# EAGLE library part XC3S200-PQ208 (library xilinx)
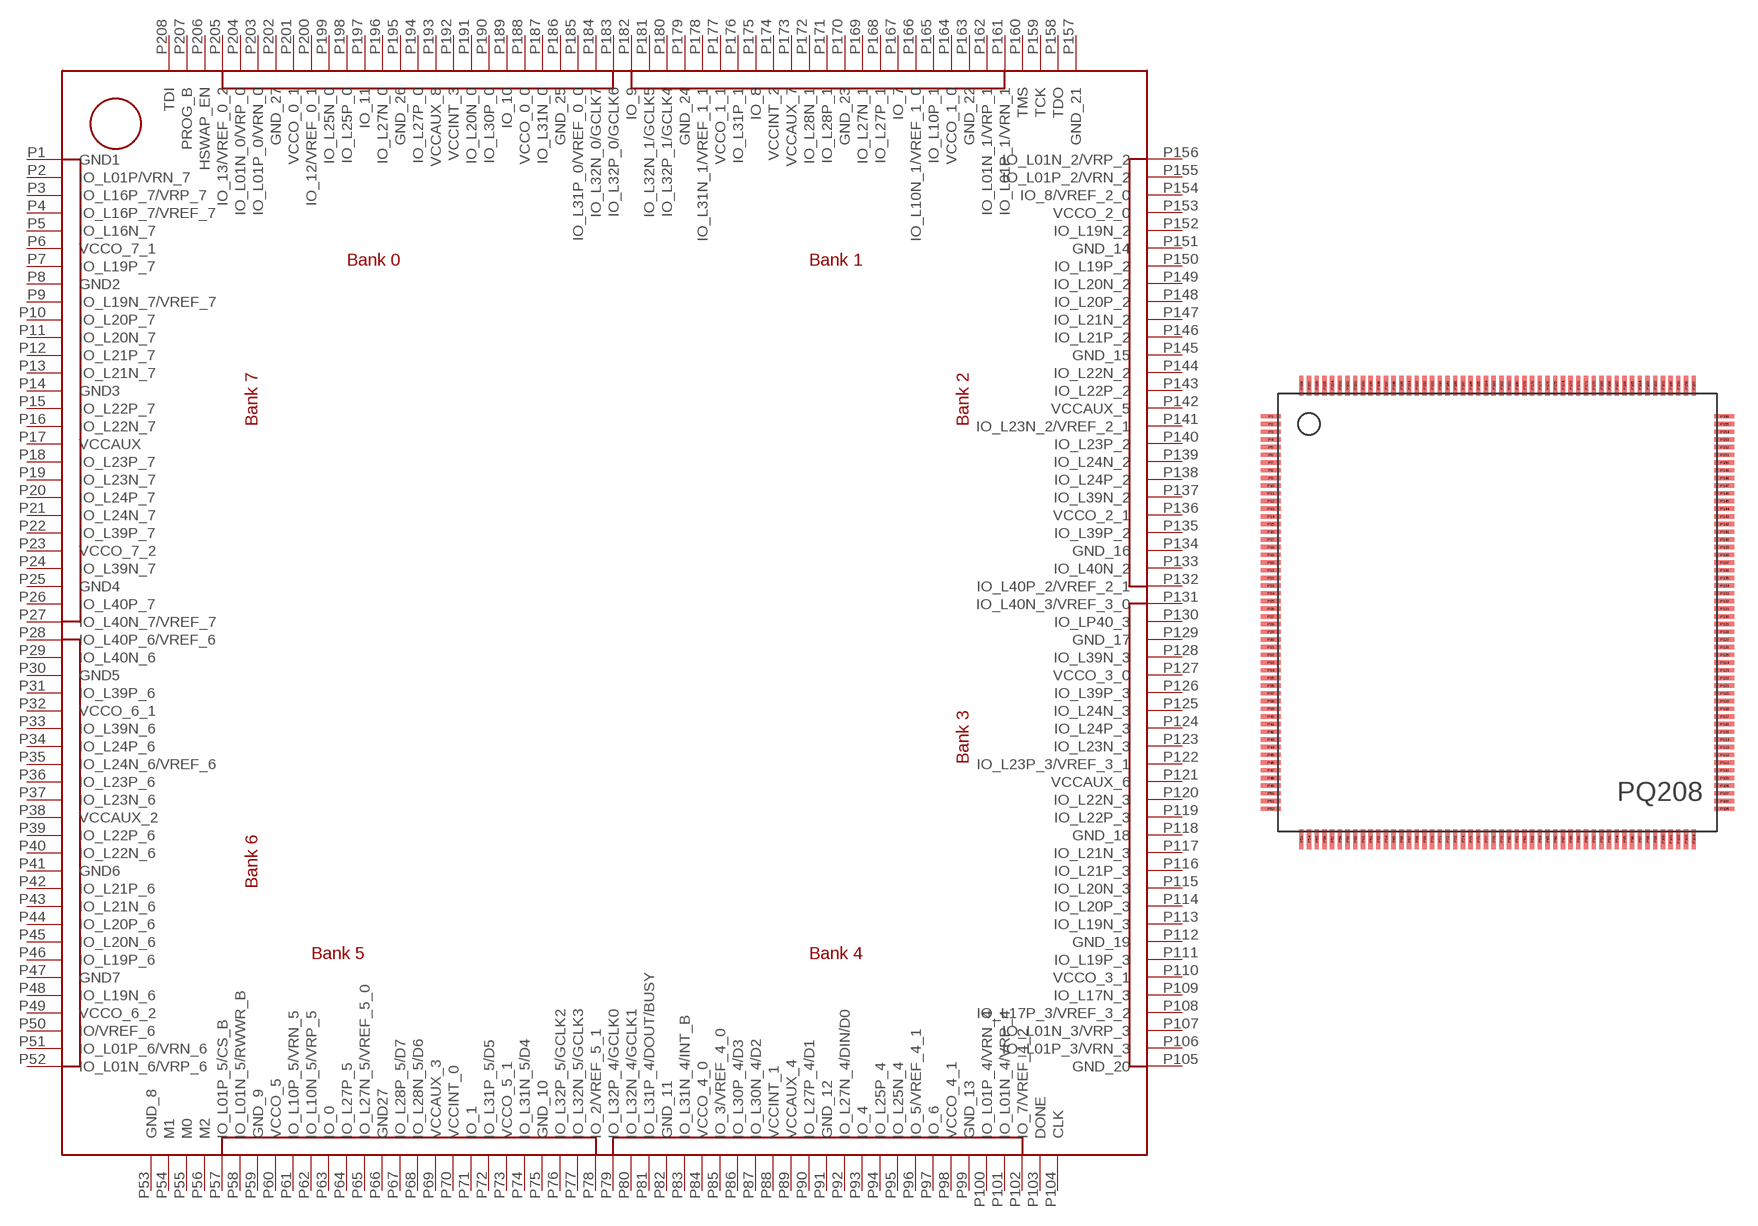
[diagram p0: symbol with the pads of PQ208; footprint PQ208]

Designator prefix -

## XC3S200-PQ208  [PQ208]
P1  GND1  pwr
P2  IO_L01P/VRN_7
P3  IO_L16P_7/VRP_7
P4  IO_L16P_7/VREF_7
P5  IO_L16N_7
P6  VCCO_7_1  pwr
P7  IO_L19P_7
P8  GND2  pwr
P9  IO_L19N_7/VREF_7
P10  IO_L20P_7
P11  IO_L20N_7
P12  IO_L21P_7
P13  IO_L21N_7
P14  GND3  pwr
P15  IO_L22P_7
P16  IO_L22N_7
P17  VCCAUX  pwr
P18  IO_L23P_7
P19  IO_L23N_7
P20  IO_L24P_7
P21  IO_L24N_7
P22  IO_L39P_7
P23  VCCO_7_2  pwr
P24  IO_L39N_7
P25  GND4  pwr
P26  IO_L40P_7
P27  IO_L40N_7/VREF_7
P28  IO_L40P_6/VREF_6
P29  IO_L40N_6
P30  GND5  pwr
P31  IO_L39P_6
P32  VCCO_6_1  pwr
P33  IO_L39N_6
P34  IO_L24P_6
P35  IO_L24N_6/VREF_6
P36  IO_L23P_6
P37  IO_L23N_6
P38  VCCAUX_2  pwr
P39  IO_L22P_6
P40  IO_L22N_6
P41  GND6  pwr
P42  IO_L21P_6
P43  IO_L21N_6
P44  IO_L20P_6
P45  IO_L20N_6
P46  IO_L19P_6
P47  GND7  pwr
P48  IO_L19N_6
P49  VCCO_6_2  pwr
P50  IO/VREF_6
P51  IO_L01P_6/VRN_6
P52  IO_L01N_6/VRP_6
P53  GND_8  pwr
P54  M1  in
P55  M0  in
P56  M2  in
P57  IO_L01P_5/CS_B
P58  IO_L01N_5/RWWR_B
P59  GND_9  pwr
P60  VCCO_5  pwr
P61  IO_L10P_5/VRN_5
P62  IO_L10N_5/VRP_5
P63  IO_0
P64  IO_L27P_5
P65  IO_L27N_5/VREF_5_0
P66  GND27  pwr
P67  IO_L28P_5/D7
P68  IO_L28N_5/D6
P69  VCCAUX_3  pwr
P70  VCCINT_0  pwr
P71  IO_1
P72  IO_L31P_5/D5
P73  VCCO_5_1  pwr
P74  IO_L31N_5/D4
P75  GND_10  pwr
P76  IO_L32P_5/GCLK2
P77  IO_L32N_5/GCLK3
P78  IO_2/VREF_5_1
P79  IO_L32P_4/GCLK0
P80  IO_L32N_4/GCLK1
P81  IO_L31P_4/DOUT/BUSY
P82  GND_11  pwr
P83  IO_L31N_4/INT_B
P84  VCCO_4_0  pwr
P85  IO_3/VREF_4_0
P86  IO_L30P_4/D3
P87  IO_L30N_4/D2
P88  VCCINT_1  pwr
P89  VCCAUX_4  pwr
P90  IO_L27P_4/D1
P91  GND_12  pwr
P92  IO_L27N_4/DIN/D0
P93  IO_4
P94  IO_L25P_4
P95  IO_L25N_4
P96  IO_5/VREF_4_1
P97  IO_6
P98  VCCO_4_1  pwr
P99  GND_13  pwr
P100  IO_L01P_4/VRN_4
P101  IO_L01N_4/VRP_4
P102  IO_7/VREF_4_2
P103  DONE
P104  CLK
P105  GND_20  pwr
P106  IO_L01P_3/VRN_3
P107  IO_L01N_3/VRP_3
P108  IO_L17P_3/VREF_3_2
P109  IO_L17N_3
P110  VCCO_3_1  pwr
P111  IO_L19P_3
P112  GND_19  pwr
P113  IO_L19N_3
P114  IO_L20P_3
P115  IO_L20N_3
P116  IO_L21P_3
P117  IO_L21N_3
P118  GND_18  pwr
P119  IO_L22P_3
P120  IO_L22N_3
P121  VCCAUX_6  pwr
P122  IO_L23P_3/VREF_3_1
P123  IO_L23N_3
P124  IO_L24P_3
P125  IO_L24N_3
P126  IO_L39P_3
P127  VCCO_3_0  pwr
P128  IO_L39N_3
P129  GND_17  pwr
P130  IO_LP40_3
P131  IO_L40N_3/VREF_3_0
P132  IO_L40P_2/VREF_2_1
P133  IO_L40N_2
P134  GND_16  pwr
P135  IO_L39P_2
P136  VCCO_2_1  pwr
P137  IO_L39N_2
P138  IO_L24P_2
P139  IO_L24N_2
P140  IO_L23P_2
P141  IO_L23N_2/VREF_2_1
P142  VCCAUX_5  pwr
P143  IO_L22P_2
P144  IO_L22N_2
P145  GND_15  pwr
P146  IO_L21P_2
P147  IO_L21N_2
P148  IO_L20P_2
P149  IO_L20N_2
P150  IO_L19P_2
P151  GND_14  pwr
P152  IO_L19N_2
P153  VCCO_2_0  pwr
P154  IO_8/VREF_2_0
P155  IO_L01P_2/VRN_2
P156  IO_L01N_2/VRP_2
P157  GND_21  pwr
P158  TDO
P159  TCK  in
P160  TMS
P161  IO_L01P_1/VRN_1
P162  IO_L01N_1/VRP_1
P163  GND_22  pwr
P164  VCCO_1_0  pwr
P165  IO_L10P_1
P166  IO_L10N_1/VREF_1_0
P167  IO_7
P168  IO_L27P_1
P169  IO_L27N_1
P170  GND_23  pwr
P171  IO_L28P_1
P172  IO_L28N_1
P173  VCCAUX_7  pwr
P174  VCCINT_2  pwr
P175  IO_8
P176  IO_L31P_1
P177  VCCO_1_1  pwr
P178  IO_L31N_1/VREF_1_1
P179  GND_24  pwr
P180  IO_L32P_1/GCLK4
P181  IO_L32N_1/GCLK5
P182  IO_9
P183  IO_L32P_0/GCLK6
P184  IO_L32N_0/GCLK7
P185  IO_L31P_0/VREF_0_0
P186  GND_25  pwr
P187  IO_L31N_0
P188  VCCO_0_0  pwr
P189  IO_10
P190  IO_L30P_0
P191  IO_L20N_0
P192  VCCINT_3  pwr
P193  VCCAUX_8  pwr
P194  IO_L27P_0
P195  GND_26  pwr
P196  IO_L27N_0
P197  IO_11
P198  IO_L25P_0
P199  IO_L25N_0
P200  IO_12/VREF_0_1
P201  VCCO_0_1  pwr
P202  GND_27  pwr
P203  IO_L01P_0/VRN_0
P204  IO_L01N_0/VRP_0
P205  IO_13/VREF_0_2
P206  HSWAP_EN  in
P207  PROG_B
P208  TDI  in

## Footprint PQ208 (pad centres in mm)
smd 1.3 x 0.28: P1 -14.5,13; P2 -14.5,12.5; P3 -14.5,12; P4 -14.5,11.5; P5 -14.5,11; P6 -14.5,10.5; P7 -14.5,10; P8 -14.5,9.5; P9 -14.5,9; P10 -14.5,8.5; P11 -14.5,8; P12 -14.5,7.5; P13 -14.5,7; P14 -14.5,6.5; P15 -14.5,6; P16 -14.5,5.5; P17 -14.5,5; P18 -14.5,4.5; P19 -14.5,4; P20 -14.5,3.5; P21 -14.5,3; P22 -14.5,2.5; P23 -14.5,2; P24 -14.5,1.5; P25 -14.5,1; P26 -14.5,0.5; P27 -14.5,0; P28 -14.5,-0.5; P29 -14.5,-1; P30 -14.5,-1.5; P31 -14.5,-2; P32 -14.5,-2.5; P33 -14.5,-3; P34 -14.5,-3.5; P35 -14.5,-4; P36 -14.5,-4.5; P37 -14.5,-5; P38 -14.5,-5.5; P39 -14.5,-6; P40 -14.5,-6.5; P41 -14.5,-7; P42 -14.5,-7.5; P43 -14.5,-8; P44 -14.5,-8.5; P45 -14.5,-9; P46 -14.5,-9.5; P47 -14.5,-10; P48 -14.5,-10.5; P49 -14.5,-11; P50 -14.5,-11.5; P51 -14.5,-12; P52 -14.5,-12.5; P105 15,-12.5; P106 15,-12; P107 15,-11.5; P108 15,-11; P109 15,-10.5; P110 15,-10; P111 15,-9.5; P112 15,-9; P113 15,-8.5; P114 15,-8; P115 15,-7.5; P116 15,-7; P117 15,-6.5; P118 15,-6; P119 15,-5.5; P120 15,-5; P121 15,-4.5; P122 15,-4; P123 15,-3.5; P124 15,-3; P125 15,-2.5; P126 15,-2; P127 15,-1.5; P128 15,-1; P129 15,-0.5; P130 15,0; P131 15,0.5; P132 15,1; P133 15,1.5; P134 15,2; P135 15,2.5; P136 15,3; P137 15,3.5; P138 15,4; P139 15,4.5; P140 15,5; P141 15,5.5; P142 15,6; P143 15,6.5; P144 15,7; P145 15,7.5; P146 15,8; P147 15,8.5; P148 15,9; P149 15,9.5; P150 15,10; P151 15,10.5; P152 15,11; P153 15,11.5; P154 15,12; P155 15,12.5; P156 15,13
smd 0.28 x 1.3: P53 -12.5,-14.5; P54 -12,-14.5; P55 -11.5,-14.5; P56 -11,-14.5; P57 -10.5,-14.5; P58 -10,-14.5; P59 -9.5,-14.5; P60 -9,-14.5; P61 -8.5,-14.5; P62 -8,-14.5; P63 -7.5,-14.5; P64 -7,-14.5; P65 -6.5,-14.5; P66 -6,-14.5; P67 -5.5,-14.5; P68 -5,-14.5; P69 -4.5,-14.5; P70 -4,-14.5; P71 -3.5,-14.5; P72 -3,-14.5; P73 -2.5,-14.5; P74 -2,-14.5; P75 -1.5,-14.5; P76 -1,-14.5; P77 -0.5,-14.5; P78 0,-14.5; P79 0.5,-14.5; P80 1,-14.5; P81 1.5,-14.5; P82 2,-14.5; P83 2.5,-14.5; P84 3,-14.5; P85 3.5,-14.5; P86 4,-14.5; P87 4.5,-14.5; P88 5,-14.5; P89 5.5,-14.5; P90 6,-14.5; P91 6.5,-14.5; P92 7,-14.5; P93 7.5,-14.5; P94 8,-14.5; P95 8.5,-14.5; P96 9,-14.5; P97 9.5,-14.5; P98 10,-14.5; P99 10.5,-14.5; P100 11,-14.5; P101 11.5,-14.5; P102 12,-14.5; P103 12.5,-14.5; P104 13,-14.5; P157 13,15; P158 12.5,15; P159 12,15; P160 11.5,15; P161 11,15; P162 10.5,15; P163 10,15; P164 9.5,15; P165 9,15; P166 8.5,15; P167 8,15; P168 7.5,15; P169 7,15; P170 6.5,15; P171 6,15; P172 5.5,15; P173 5,15; P174 4.5,15; P175 4,15; P176 3.5,15; P177 3,15; P178 2.5,15; P179 2,15; P180 1.5,15; P181 1,15; P182 0.5,15; P183 0,15; P184 -0.5,15; P185 -1,15; P186 -1.5,15; P187 -2,15; P188 -2.5,15; P189 -3,15; P190 -3.5,15; P191 -4,15; P192 -4.5,15; P193 -5,15; P194 -5.5,15; P195 -6,15; P196 -6.5,15; P197 -7,15; P198 -7.5,15; P199 -8,15; P200 -8.5,15; P201 -9,15; P202 -9.5,15; P203 -10,15; P204 -10.5,15; P205 -11,15; P206 -11.5,15; P207 -12,15; P208 -12.5,15